# Altium integrated library kruvi_auk.IntLib: 1 symbol
Pins are listed as number, name and electrical type; pins without a type are passive.

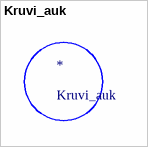
[diagram p0: symbol Kruvi_auk]

## Kruvi_auk
designator *
footprint kruvi_auk